# EAGLE library part 643240100408 (library WR-CIRC)
WR-CIRCM12 Screw Mating Panel Connector PCB Female Angled 90° Plastic M16 Kind Properties Gender Female Packaging Properties Packaging Tray Electrical Properties IR 2 A; 5 A Working Voltage 30 V; 60 V; 250 V Withstanding Voltage 650 V (AC); 1000 V (AC); 1400 V (AC) Contact Resistance Initial 10 mΩ RISO 100 MΩ General Information Durability 100 Mating cycles Ingress Protection Code IP68 Operating Temperature -40 up to +90 °C Material Properties Insulator Material PA66 Insulator Flammability Rating UL94 V-0 Insulator Color Black Contact Material Copper Alloy Contact Plating Gold <https://www.we-online.com/components/media/o722380v209%20family-wr-circm12-6432401004xx.jpg> Details see: www.we-online.com/en/components/products/WR-CIRCM12_PANEL_CONNECTOR_PCB_FEMALE_ANGLED_90_PLASTIC_M16 Created by Ella 2023-03-14 2023 (C) Würth Elektronik
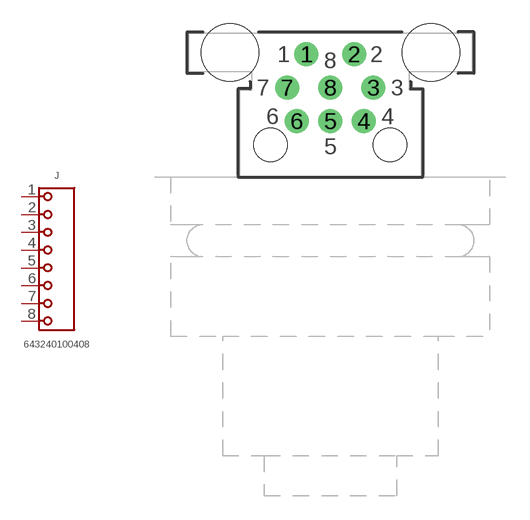
[diagram p1: symbol with the pads of 643240100408; footprint 643240100408]

Designator prefix J

## 643240100408 (DATASHEET-URL: https://www.we-online.com/redexpert/spec/643240100408?ae; GENDER: Female; MOUNT: THT; PART-NUMBER: 643240100408; POLARITY: 8; RATED-CURRENT: 2A; RISO: 100 MO; VALUE: 643240100408; WITHSTANDING-VOLTAGE: 650V(AC); WORKING-VOLTAGE: 30V)  [643240100408]
1  1  pas
2  2  pas
3  3  pas
4  4  pas
5  5  pas
6  6  pas
7  7  pas
8  8  pas

## Footprint 643240100408 (pad centres in mm)
WR-CIRCM12 Screw Mating Panel Connector PCB Female Angled 90° Plastic M16 THT, 8pins
drill 1: 1 -1.5,2.1; 2 1.5,2.1; 3 2.7,0; 4 2.1,-2.1; 5 0,-2.1; 6 -2.1,-2.1; 7 -2.7,0; 8 0,0
hole 3.6 at -6.3,2.2
hole 3.6 at 6.3,2.2
hole 2.1 at -3.75,-3.6
hole 2.1 at 3.75,-3.6